# Altium schematic symbol library BQ5105xB.SchLib: 1 symbol
Pins are listed as number, name and electrical type; pins without a type are passive.

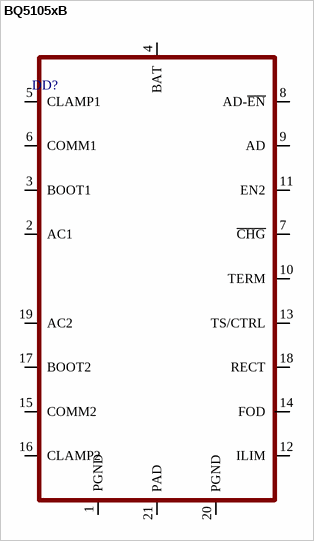
[diagram p0: symbol BQ5105xB]

## BQ5105xB
designator DD?
pins: 1 PGND, 2 AC1, 3 BOOT1, 4 BAT, 5 CLAMP1, 6 COMM1, 7 ~{CHG}, 8 AD-~{EN}, 9 AD, 10 TERM, 11 EN2, 12 ILIM, 13 TS/CTRL, 14 FOD, 15 COMM2, 16 CLAMP2, 17 BOOT2, 18 RECT, 19 AC2, 20 PGND, 21 PAD